# EAGLE library part TPS54231DR (library BM_pre)
2A, 28V INPUT, STEP DOWN DC/DC CONVERTER WITH ECO-MODE,SOIC-8
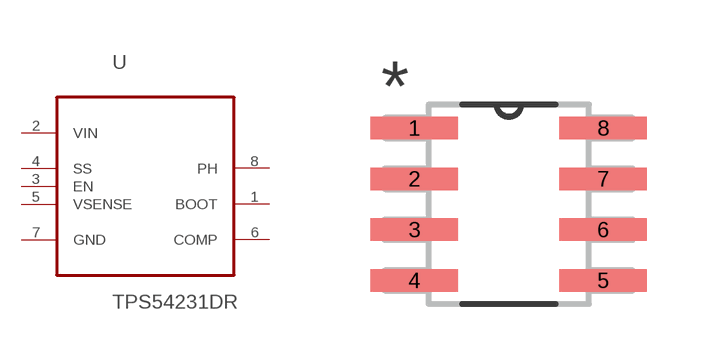
[diagram p1: symbol with the pads of SOIC127P600X175-8N; footprint SOIC127P600X175-8N]

Designator prefix U

## TPS54231DR (MPN: TPS54231DR; OC_FARNELL: 2120467; OC_NEWARK: 94T5096; PACKAGE: SOIC- 8; SUPPLIER: TEXAS INSTRUMENTS)  [SOIC127P600X175-8N]
1  BOOT  pas
2  VIN  pwr
3  EN  in
4  SS  in
5  VSENSE  pas
6  COMP  out
7  GND  pas
8  PH  pas

## Footprint SOIC127P600X175-8N (pad centres in mm)
smd 2.184 x 0.559: 1 -2.362,1.905; 2 -2.362,0.635; 3 -2.362,-0.635; 4 -2.362,-1.905; 5 2.362,-1.905; 6 2.362,-0.635; 7 2.362,0.635; 8 2.362,1.905